# Altium schematic symbol library MB10S.SchLib: 1 symbol
Pins are listed as number, name and electrical type; pins without a type are passive.

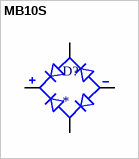
[diagram p0: symbol MB10S]

## MB10S
designator D?
MB10S Series 0.5 A 1000 V Low Leakage SMT Bridge Rectifier - SOIC-4; MF: {'manufacturer': u'MDD'}; MP: MB10S; Price: None; Availability: Unavailable; Package: None; Value: *
footprint SOIC245P670X290-4N
pins: 1 POS, 2 NEG, 3 AC2, 4 AC1